# EAGLE library part DAC56 (library burr-brown-5a)
16-Bit Resolution DAC
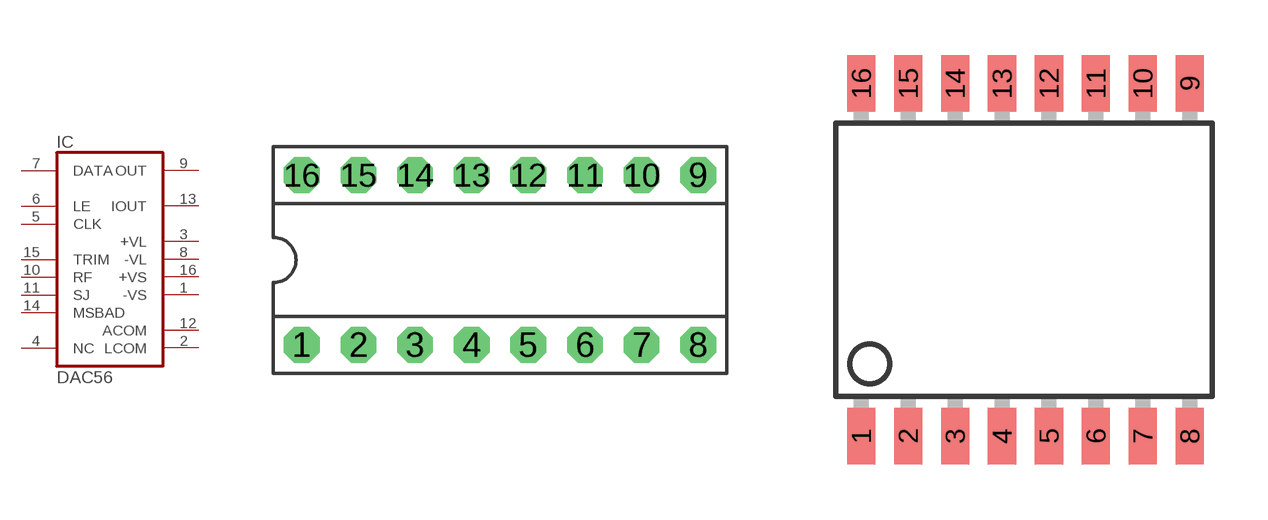
[diagram p165: symbol with the pads of DIL16; footprints DIL16, SO16-1]

Designator prefix IC

## DAC56P  [DIL16]
1  -VS  pwr
2  LCOM  pwr
3  +VL  pwr
4  NC  nc
5  CLK  in
6  LE  in
7  DATA  in
8  -VL  pwr
9  OUT  out
10  RF  pas
11  SJ  pas
12  ACOM  pwr
13  IOUT  out
14  MSBAD  pas
15  TRIM  pas
16  +VS  pwr

## DAC56U  [SO16-1]
Pads as for DIL16

## Footprint DIL16 (pad centres in mm)
Dual In Line
drill 0.813 pad 1.6 octagon: 1 -8.89,-3.81; 2 -6.35,-3.81; 3 -3.81,-3.81; 4 -1.27,-3.81; 5 1.27,-3.81; 6 3.81,-3.81; 7 6.35,-3.81; 8 8.89,-3.81; 9 8.89,3.81; 10 6.35,3.81; 11 3.81,3.81; 12 1.27,3.81; 13 -1.27,3.81; 14 -3.81,3.81; 15 -6.35,3.81; 16 -8.89,3.81

## Footprint SO16-1 (pad centres in mm)
Small Outline Package
smd 0.762 x 1.524: 1 -4.445,-4.775; 2 -3.175,-4.775; 3 -1.905,-4.775; 4 -0.635,-4.775; 5 0.635,-4.775; 6 1.905,-4.775; 7 3.175,-4.775; 8 4.445,-4.775; 9 4.445,4.775; 10 3.175,4.775; 11 1.905,4.775; 12 0.635,4.775; 13 -0.635,4.775; 14 -1.905,4.775; 15 -3.175,4.775; 16 -4.445,4.775